# EAGLE library part TPC8107 (library TPC8107)
MOSFET MOSFET P-Ch 30V 13A Rdson=0.007Ohm Source: Datasheet <https://datasheetspdf.com/pdf-file/312202/ToshibaSemiconductor/TPC8107/1>
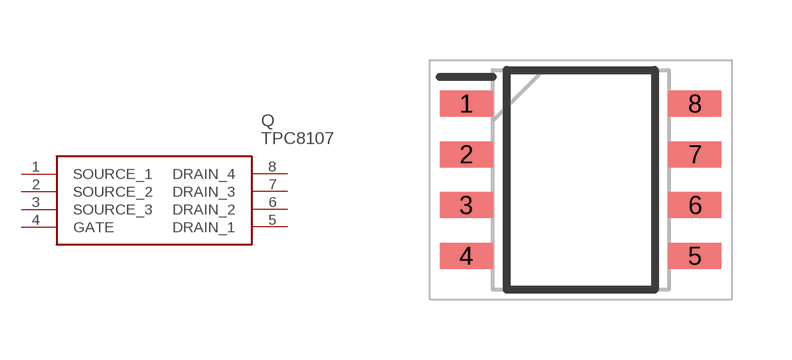
[diagram p0: symbol with the pads of SOIC127P600X190-8N; footprint SOIC127P600X190-8N]

Designator prefix Q

## TPC8107 (Description: MOSFET MOSFET P-Ch 30V 13A Rdson=0.007Ohm; Height: 1.9mm; Manufacturer_Name: Toshiba; Manufacturer_Part_Number: TPC8107)  [SOIC127P600X190-8N]
1  SOURCE_1
2  SOURCE_2
3  SOURCE_3
4  GATE
5  DRAIN_1
6  DRAIN_2
7  DRAIN_3
8  DRAIN_4

## Footprint SOIC127P600X190-8N (pad centres in mm)
2-6J1B_2023
smd 1.325 x 0.65: 1 -2.862,1.905; 2 -2.862,0.635; 3 -2.862,-0.635; 4 -2.862,-1.905; 5 2.862,-1.905; 6 2.862,-0.635; 7 2.862,0.635; 8 2.862,1.905